# Altium integrated library Texas Instruments Interface RS-422.IntLib: 548 symbols (part 3 of 15)
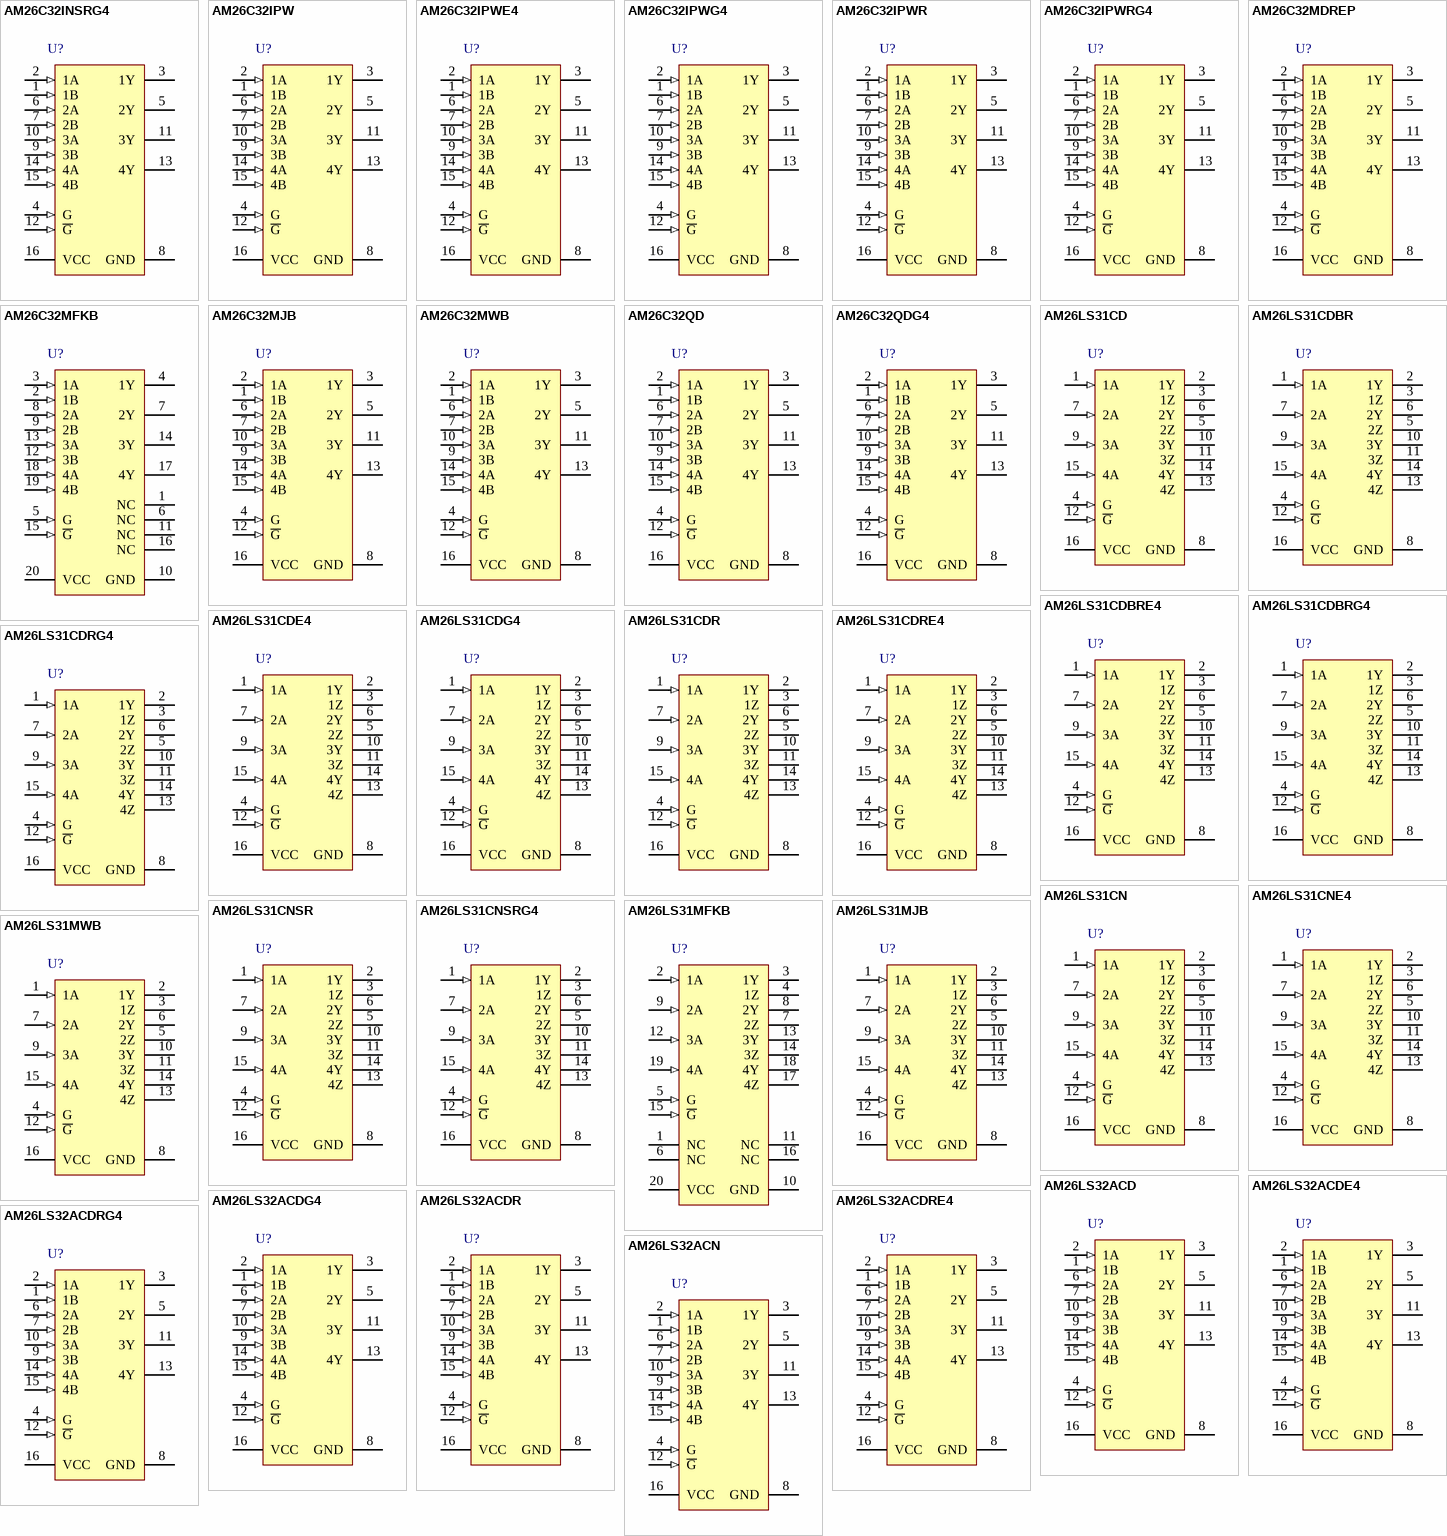
[diagram p17: symbols AM26C32INSRG4 to AM26LS32ACN]

## AM26C32IPWRG4
designator U?
Quadruple Differential Line Receiver, 0 TX / 4 RX, 5V, -40 to 85 degC, 16-Pin TSSOP(PW), Green (RoHS & no Sb/Br); PartNumber: AM26C32IPWRG4; Manufacturer: Texas Instruments; SubFamily: RS-422; Receivers Per Package: 4; ICC(Max)(mA): 15; Supply Voltage(s)(V): 5; ESD(kV): 2; Rating: Catalog; DatasheetVersion: SLLS104I; PackageVersion: revG, Feb-2011; PackageReference: PW16; PackageDescription: 16-Pin Plastic Thin Small Outline Package 5 x 4.4 mm Body ,0.65 mm Pitch; Mounting Technology: Surface Mount; Eco-Plan: Green (RoHS & no Sb/Br); # of TX/RX: 0 TX / 4 RX; Footprint: AM26LS32; Code_JEDEC: MO-153; ComponentLink1Description: Datasheet; ComponentLink1URL: http://www.ti.com/general/docs/lit/getliterature.tsp?genericPartNumber=AM26C32&fileType=pdf; ComponentLink2Description: Package Specification; ComponentLink2URL: http://www.ti.com/lit/ml/mpds361/mpds361.pdf
footprint PW16_N (TSOP, 16-Leads, Body 5x4.4mm, Pitch 0.65mm, IPC Medium Density)
footprint PW16_L (TSOP, 16-Leads, Body 5x4.4mm, Pitch 0.65mm, IPC High Density)
footprint PW16_M (TSOP, 16-Leads, Body 5x4.4mm, Pitch 0.65mm, IPC Low Density)
pins: 1 1B (in), 2 1A (in), 3 1Y (hiz), 4 G (in), 5 2Y (hiz), 6 2A (in), 7 2B (in), 8 GND (power), 9 3B (in), 10 3A (in), 11 3Y (hiz), 12 ~{G} (in), 13 4Y (hiz), 14 4A (in), 15 4B (in), 16 VCC (power)

## AM26C32MDREP
designator U?
Enhanced Product Quadruple Differential Line Receiver, 0 TX / 4 RX, 5V, -55 to 125 degC, 16-Pin SOIC (D), Green (RoHS & no Sb/Br); PartNumber: AM26C32MDREP; Manufacturer: Texas Instruments; SubFamily: RS-422; Receivers Per Package: 4; ICC(Max)(mA): 15; Supply Voltage(s)(V): 5; Rating: HiRel Enhanced Product; DatasheetVersion: SLLS871; PackageVersion: revM, Jun-2011; PackageReference: D16; PackageDescription: 16-Pin Plastic Small Outline Integrated Circuit, 9.9 x 3.9 mm, Pitch 1.27 mm Pitch; Mounting Technology: Surface Mount; Eco-Plan: Green (RoHS & no Sb/Br); # of TX/RX: 0 TX / 4 RX; Code_JEDEC: MS-012AC; ComponentLink1Description: Datasheet; ComponentLink1URL: http://www.ti.com/general/docs/lit/getliterature.tsp?genericPartNumber=AM26C31-EP&fileType=pdf; ComponentLink2Description: Package Specification; ComponentLink2URL: http://www.ti.com/litv/pdf/mpds178g
footprint D16_N (SOIC, 16-Leads, Body 9.9x3.9mm, Pitch 1.27mm, IPC Medium Density)
footprint D16_L (SOIC, 16-Leads, Body 9.9x3.9mm, Pitch 1.27mm, IPC High Density)
footprint D16_M (SOIC, 16-Leads, Body 9.9x3.9mm, Pitch 1.27mm, IPC Low Density)
pins: 1 1B (in), 2 1A (in), 3 1Y (hiz), 4 G (in), 5 2Y (hiz), 6 2A (in), 7 2B (in), 8 GND (power), 9 3B (in), 10 3A (in), 11 3Y (hiz), 12 ~{G} (in), 13 4Y (hiz), 14 4A (in), 15 4B (in), 16 VCC (power)

## AM26C32MFKB
designator U?
Quadruple Differential Line Receiver, 0 TX / 4 RX, 5V, -55 to 125 degC, 20-Pin LCCC (FK); PartNumber: AM26C32MFKB; Manufacturer: Texas Instruments; Eco-Plan: TBD; SubFamily: RS-422; Receivers Per Package: 4; ICC(Max)(mA): 15; Supply Voltage(s)(V): 5; ESD(kV): 2; Rating: Military; DatasheetVersion: SLLS104I; PackageVersion: revD, Jan-2011; PackageReference: FK20; PackageDescription: 20-Pin Leadless Ceramic Chip Carrier, 1.27 mm Pitch; Mounting Technology: Surface Mount; # of TX/RX: 0 TX / 4 RX; Footprint: AM26LS32; Code_JEDEC: MS-004; ComponentLink1Description: Datasheet; ComponentLink1URL: http://www.ti.com/general/docs/lit/getliterature.tsp?genericPartNumber=AM26C32M&fileType=pdf; ComponentLink2Description: Package Specification; ComponentLink2URL: http://www.ti.com/litv/pdf/mlcc006d
footprint FK20_N (Leadless Chip Carrier, 20-Leads, Body 8.9x8.9mm, Pitch 1.27mm, IPC Medium Density)
footprint FK20_L (Leadless Chip Carrier, 20-Leads, Body 8.9x8.9mm, Pitch 1.27mm, IPC High Density)
footprint FK20_M (Leadless Chip Carrier, 20-Leads, Body 8.9x8.9mm, Pitch 1.27mm, IPC Low Density)
pins: 1 NC, 2 1B (in), 3 1A (in), 4 1Y (hiz), 5 G (in), 6 NC, 7 2Y (hiz), 8 2A (in), 9 2B (in), 10 GND (power), 11 NC, 12 3B (in), 13 3A (in), 14 3Y (hiz), 15 ~{G} (in), 16 NC, 17 4Y (hiz), 18 4A (in), 19 4B (in), 20 VCC (power)

## AM26C32MJB
designator U?
Quadruple Differential Line Receiver, 0 TX / 4 RX, 5V, -55 to 125 degC, 16-Pin CDIP (J); PartNumber: AM26C32MJB; Manufacturer: Texas Instruments; Eco-Plan: TBD; SubFamily: RS-422; Receivers Per Package: 4; ICC(Max)(mA): 15; Supply Voltage(s)(V): 5; ESD(kV): 2; Rating: Military; DatasheetVersion: SLLS104I; PackageVersion: revF, Mar-2003; PackageReference: J16; PackageDescription: 16-Pin, Ceramic Dual In-Line Package, Row Spacing 7.62 mm, Pitch 2.54 mm; Mounting Technology: Through-hole; # of TX/RX: 0 TX / 4 RX; Footprint: AM26LS32; ComponentLink1Description: Datasheet; ComponentLink1URL: http://www.ti.com/general/docs/lit/getliterature.tsp?genericPartNumber=AM26C32M&fileType=pdf; ComponentLink2Description: Package Specification; ComponentLink2URL: http://www.ti.com/lit/ml/mcer002d/mcer002d.pdf
footprint J16 (DIP, 16-Leads, Row Spacing 7.62mm, Pitch 2.54mm, Body 21.3x6.9mm)
pins: 1 1B (in), 2 1A (in), 3 1Y (hiz), 4 G (in), 5 2Y (hiz), 6 2A (in), 7 2B (in), 8 GND (power), 9 3B (in), 10 3A (in), 11 3Y (hiz), 12 ~{G} (in), 13 4Y (hiz), 14 4A (in), 15 4B (in), 16 VCC (power)

## AM26C32MWB
designator U?
Quadruple Differential Line Receiver, 0 TX / 4 RX, 5V, -55 to 125 degC, 16-Pin CFP (W); PartNumber: AM26C32MWB; Manufacturer: Texas Instruments; Eco-Plan: TBD; SubFamily: RS-422; Receivers Per Package: 4; ICC(Max)(mA): 15; Supply Voltage(s)(V): 5; ESD(kV): 2; Rating: Military; DatasheetVersion: SLLS104I; PackageVersion: revD, Jul-2003; PackageReference: W16; PackageDescription: 16-Lead Ceramic Dual Flatpack, Body 10.9 x 7.2 mm (LxW max), Pitch 1.27 mm; Mounting Technology: Surface Mount; # of TX/RX: 0 TX / 4 RX; Footprint: AM26LS32; Code_JEDEC: MO-092-AC; ComponentLink1Description: Datasheet; ComponentLink1URL: http://www.ti.com/general/docs/lit/getliterature.tsp?genericPartNumber=AM26C32M&fileType=pdf; ComponentLink2Description: Package Specification; ComponentLink2URL: http://www.ti.com/lit/ml/mcfp004a/mcfp004a.pdf
footprint W16 (DFP, 16 Leads, Body 10.2x6.7mm, Pitch 1.27mm, Gullwing Leadform)
pins: 1 1B (in), 2 1A (in), 3 1Y (hiz), 4 G (in), 5 2Y (hiz), 6 2A (in), 7 2B (in), 8 GND (power), 9 3B (in), 10 3A (in), 11 3Y (hiz), 12 ~{G} (in), 13 4Y (hiz), 14 4A (in), 15 4B (in), 16 VCC (power)

## AM26C32QD
designator U?
Quadruple Differential Line Receiver, 0 TX / 4 RX, 5V, -40 to 125 degC, 16-Pin SOIC (D), Green (RoHS & no Sb/Br); PartNumber: AM26C32QD; Manufacturer: Texas Instruments; SubFamily: RS-422; Receivers Per Package: 4; ICC(Max)(mA): 15; Supply Voltage(s)(V): 5; ESD(kV): 2; Rating: Catalog; DatasheetVersion: SLLS104I; PackageVersion: revM, Jun-2011; PackageReference: D16; PackageDescription: 16-Pin Plastic Small Outline Integrated Circuit, 9.9 x 3.9 mm, Pitch 1.27 mm Pitch; Mounting Technology: Surface Mount; Eco-Plan: Green (RoHS & no Sb/Br); # of TX/RX: 0 TX / 4 RX; Footprint: AM26LS32; Code_JEDEC: MS-012AC; ComponentLink1Description: Datasheet; ComponentLink1URL: http://www.ti.com/general/docs/lit/getliterature.tsp?genericPartNumber=AM26C32&fileType=pdf; ComponentLink2Description: Package Specification; ComponentLink2URL: http://www.ti.com/litv/pdf/mpds178g
footprint D16_N (SOIC, 16-Leads, Body 9.9x3.9mm, Pitch 1.27mm, IPC Medium Density)
footprint D16_L (SOIC, 16-Leads, Body 9.9x3.9mm, Pitch 1.27mm, IPC High Density)
footprint D16_M (SOIC, 16-Leads, Body 9.9x3.9mm, Pitch 1.27mm, IPC Low Density)
pins: 1 1B (in), 2 1A (in), 3 1Y (hiz), 4 G (in), 5 2Y (hiz), 6 2A (in), 7 2B (in), 8 GND (power), 9 3B (in), 10 3A (in), 11 3Y (hiz), 12 ~{G} (in), 13 4Y (hiz), 14 4A (in), 15 4B (in), 16 VCC (power)

## AM26C32QDG4
designator U?
Quadruple Differential Line Receiver, 0 TX / 4 RX, 5V, -40 to 125 degC, 16-Pin SOIC (D), Green (RoHS & no Sb/Br); PartNumber: AM26C32QDG4; Manufacturer: Texas Instruments; SubFamily: RS-422; Receivers Per Package: 4; ICC(Max)(mA): 15; Supply Voltage(s)(V): 5; ESD(kV): 2; Rating: Catalog; DatasheetVersion: SLLS104I; PackageVersion: revM, Jun-2011; PackageReference: D16; PackageDescription: 16-Pin Plastic Small Outline Integrated Circuit, 9.9 x 3.9 mm, Pitch 1.27 mm Pitch; Mounting Technology: Surface Mount; Eco-Plan: Green (RoHS & no Sb/Br); # of TX/RX: 0 TX / 4 RX; Footprint: AM26LS32; Code_JEDEC: MS-012AC; ComponentLink1Description: Datasheet; ComponentLink1URL: http://www.ti.com/general/docs/lit/getliterature.tsp?genericPartNumber=AM26C32&fileType=pdf; ComponentLink2Description: Package Specification; ComponentLink2URL: http://www.ti.com/litv/pdf/mpds178g
footprint D16_N (SOIC, 16-Leads, Body 9.9x3.9mm, Pitch 1.27mm, IPC Medium Density)
footprint D16_L (SOIC, 16-Leads, Body 9.9x3.9mm, Pitch 1.27mm, IPC High Density)
footprint D16_M (SOIC, 16-Leads, Body 9.9x3.9mm, Pitch 1.27mm, IPC Low Density)
pins: 1 1B (in), 2 1A (in), 3 1Y (hiz), 4 G (in), 5 2Y (hiz), 6 2A (in), 7 2B (in), 8 GND (power), 9 3B (in), 10 3A (in), 11 3Y (hiz), 12 ~{G} (in), 13 4Y (hiz), 14 4A (in), 15 4B (in), 16 VCC (power)

## AM26LS31CD
designator U?
Quadruple Differential Line Driver, 4 TX / 0 RX, 5V, 0 to 70 degC, 16-Pin SOIC (D), Green (RoHS & no Sb/Br); PartNumber: AM26LS31CD; Manufacturer: Texas Instruments; SubFamily: RS-422; Drivers Per Package: 4; ICC(Max)(mA): 80; Supply Voltage(s)(V): 5; ESD(kV): 2; Rating: Catalog; DatasheetVersion: SLLS114I; PackageVersion: revM, Jun-2011; PackageReference: D16; PackageDescription: 16-Pin Plastic Small Outline Integrated Circuit, 9.9 x 3.9 mm, Pitch 1.27 mm Pitch; Mounting Technology: Surface Mount; Eco-Plan: Green (RoHS & no Sb/Br); # of TX/RX: 4 TX / 0 RX; Footprint: AM26LS31; Code_JEDEC: MS-012AC; ComponentLink1Description: Datasheet; ComponentLink1URL: http://www.ti.com/general/docs/lit/getliterature.tsp?genericPartNumber=AM26LS31&fileType=pdf; ComponentLink2Description: Package Specification; ComponentLink2URL: http://www.ti.com/litv/pdf/mpds178g
footprint D16_N (SOIC, 16-Leads, Body 9.9x3.9mm, Pitch 1.27mm, IPC Medium Density)
footprint D16_L (SOIC, 16-Leads, Body 9.9x3.9mm, Pitch 1.27mm, IPC High Density)
footprint D16_M (SOIC, 16-Leads, Body 9.9x3.9mm, Pitch 1.27mm, IPC Low Density)
pins: 1 1A (in), 2 1Y (hiz), 3 1Z (hiz), 4 G (in), 5 2Z (hiz), 6 2Y (hiz), 7 2A (in), 8 GND (power), 9 3A (in), 10 3Y (hiz), 11 3Z (hiz), 12 ~{G} (in), 13 4Z (hiz), 14 4Y (hiz), 15 4A (in), 16 VCC (power)

## AM26LS31CDBR
designator U?
Quadruple Differential Line Driver, 4 TX / 0 RX, 5V, 0 to 70 degC, 16-Pin SSOP (DB), Green (RoHS & no Sb/Br); PartNumber: AM26LS31CDBR; Manufacturer: Texas Instruments; SubFamily: RS-422; Drivers Per Package: 4; ICC(Max)(mA): 80; Supply Voltage(s)(V): 5; ESD(kV): 2; Rating: Catalog; DatasheetVersion: SLLS114I; PackageVersion: revE, Dec-2001; PackageReference: DB16; PackageDescription: 16-Pin Plastic Small Outline Package, 6.2 x 5.3 mm Body, 0.65 mm Pitch; Mounting Technology: Surface Mount; Eco-Plan: Green (RoHS & no Sb/Br); # of TX/RX: 4 TX / 0 RX; Footprint: AM26LS31; Code_JEDEC: MO-150; ComponentLink1Description: Datasheet; ComponentLink1URL: http://www.ti.com/general/docs/lit/getliterature.tsp?genericPartNumber=AM26LS31&fileType=pdf; ComponentLink2Description: Package Specification; ComponentLink2URL: http://www.ti.com/lit/ml/msso002e/msso002e.pdf
footprint DB16_N (SOP, 16-Leads, Body 6.2x5.3mm, Pitch 0.65mm, IPC Medium Density)
footprint DB16_L (SOP, 16-Leads, Body 6.2x5.3mm, Pitch 0.65mm, IPC High Density)
footprint DB16_M (SOP, 16-Leads, Body 6.2x5.3mm, Pitch 0.65mm, IPC Low Density)
pins: 1 1A (in), 2 1Y (hiz), 3 1Z (hiz), 4 G (in), 5 2Z (hiz), 6 2Y (hiz), 7 2A (in), 8 GND (power), 9 3A (in), 10 3Y (hiz), 11 3Z (hiz), 12 ~{G} (in), 13 4Z (hiz), 14 4Y (hiz), 15 4A (in), 16 VCC (power)

## AM26LS31CDBRE4
designator U?
Quadruple Differential Line Driver, 4 TX / 0 RX, 5V, 0 to 70 degC, 16-Pin SSOP (DB), Green (RoHS & no Sb/Br); PartNumber: AM26LS31CDBRE4; Manufacturer: Texas Instruments; SubFamily: RS-422; Drivers Per Package: 4; ICC(Max)(mA): 80; Supply Voltage(s)(V): 5; ESD(kV): 2; Rating: Catalog; DatasheetVersion: SLLS114I; PackageVersion: revE, Dec-2001; PackageReference: DB16; PackageDescription: 16-Pin Plastic Small Outline Package, 6.2 x 5.3 mm Body, 0.65 mm Pitch; Mounting Technology: Surface Mount; Eco-Plan: Green (RoHS & no Sb/Br); # of TX/RX: 4 TX / 0 RX; Footprint: AM26LS31; Code_JEDEC: MO-150; ComponentLink1Description: Datasheet; ComponentLink1URL: http://www.ti.com/general/docs/lit/getliterature.tsp?genericPartNumber=AM26LS31&fileType=pdf; ComponentLink2Description: Package Specification; ComponentLink2URL: http://www.ti.com/lit/ml/msso002e/msso002e.pdf
footprint DB16_N (SOP, 16-Leads, Body 6.2x5.3mm, Pitch 0.65mm, IPC Medium Density)
footprint DB16_L (SOP, 16-Leads, Body 6.2x5.3mm, Pitch 0.65mm, IPC High Density)
footprint DB16_M (SOP, 16-Leads, Body 6.2x5.3mm, Pitch 0.65mm, IPC Low Density)
pins: 1 1A (in), 2 1Y (hiz), 3 1Z (hiz), 4 G (in), 5 2Z (hiz), 6 2Y (hiz), 7 2A (in), 8 GND (power), 9 3A (in), 10 3Y (hiz), 11 3Z (hiz), 12 ~{G} (in), 13 4Z (hiz), 14 4Y (hiz), 15 4A (in), 16 VCC (power)

## AM26LS31CDBRG4
designator U?
Quadruple Differential Line Driver, 4 TX / 0 RX, 5V, 0 to 70 degC, 16-Pin SSOP (DB), Green (RoHS & no Sb/Br); PartNumber: AM26LS31CDBRG4; Manufacturer: Texas Instruments; SubFamily: RS-422; Drivers Per Package: 4; ICC(Max)(mA): 80; Supply Voltage(s)(V): 5; ESD(kV): 2; Rating: Catalog; DatasheetVersion: SLLS114I; PackageVersion: revE, Dec-2001; PackageReference: DB16; PackageDescription: 16-Pin Plastic Small Outline Package, 6.2 x 5.3 mm Body, 0.65 mm Pitch; Mounting Technology: Surface Mount; Eco-Plan: Green (RoHS & no Sb/Br); # of TX/RX: 4 TX / 0 RX; Footprint: AM26LS31; Code_JEDEC: MO-150; ComponentLink1Description: Datasheet; ComponentLink1URL: http://www.ti.com/general/docs/lit/getliterature.tsp?genericPartNumber=AM26LS31&fileType=pdf; ComponentLink2Description: Package Specification; ComponentLink2URL: http://www.ti.com/lit/ml/msso002e/msso002e.pdf
footprint DB16_N (SOP, 16-Leads, Body 6.2x5.3mm, Pitch 0.65mm, IPC Medium Density)
footprint DB16_L (SOP, 16-Leads, Body 6.2x5.3mm, Pitch 0.65mm, IPC High Density)
footprint DB16_M (SOP, 16-Leads, Body 6.2x5.3mm, Pitch 0.65mm, IPC Low Density)
pins: 1 1A (in), 2 1Y (hiz), 3 1Z (hiz), 4 G (in), 5 2Z (hiz), 6 2Y (hiz), 7 2A (in), 8 GND (power), 9 3A (in), 10 3Y (hiz), 11 3Z (hiz), 12 ~{G} (in), 13 4Z (hiz), 14 4Y (hiz), 15 4A (in), 16 VCC (power)

## AM26LS31CDE4
designator U?
Quadruple Differential Line Driver, 4 TX / 0 RX, 5V, 0 to 70 degC, 16-Pin SOIC (D), Green (RoHS & no Sb/Br); PartNumber: AM26LS31CDE4; Manufacturer: Texas Instruments; SubFamily: RS-422; Drivers Per Package: 4; ICC(Max)(mA): 80; Supply Voltage(s)(V): 5; ESD(kV): 2; Rating: Catalog; DatasheetVersion: SLLS114I; PackageVersion: revM, Jun-2011; PackageReference: D16; PackageDescription: 16-Pin Plastic Small Outline Integrated Circuit, 9.9 x 3.9 mm, Pitch 1.27 mm Pitch; Mounting Technology: Surface Mount; Eco-Plan: Green (RoHS & no Sb/Br); # of TX/RX: 4 TX / 0 RX; Footprint: AM26LS31; Code_JEDEC: MS-012AC; ComponentLink1Description: Datasheet; ComponentLink1URL: http://www.ti.com/general/docs/lit/getliterature.tsp?genericPartNumber=AM26LS31&fileType=pdf; ComponentLink2Description: Package Specification; ComponentLink2URL: http://www.ti.com/litv/pdf/mpds178g
footprint D16_N (SOIC, 16-Leads, Body 9.9x3.9mm, Pitch 1.27mm, IPC Medium Density)
footprint D16_L (SOIC, 16-Leads, Body 9.9x3.9mm, Pitch 1.27mm, IPC High Density)
footprint D16_M (SOIC, 16-Leads, Body 9.9x3.9mm, Pitch 1.27mm, IPC Low Density)
pins: 1 1A (in), 2 1Y (hiz), 3 1Z (hiz), 4 G (in), 5 2Z (hiz), 6 2Y (hiz), 7 2A (in), 8 GND (power), 9 3A (in), 10 3Y (hiz), 11 3Z (hiz), 12 ~{G} (in), 13 4Z (hiz), 14 4Y (hiz), 15 4A (in), 16 VCC (power)

## AM26LS31CDG4
designator U?
Quadruple Differential Line Driver, 4 TX / 0 RX, 5V, 0 to 70 degC, 16-Pin SOIC (D), Green (RoHS & no Sb/Br); PartNumber: AM26LS31CDG4; Manufacturer: Texas Instruments; SubFamily: RS-422; Drivers Per Package: 4; ICC(Max)(mA): 80; Supply Voltage(s)(V): 5; ESD(kV): 2; Rating: Catalog; DatasheetVersion: SLLS114I; PackageVersion: revM, Jun-2011; PackageReference: D16; PackageDescription: 16-Pin Plastic Small Outline Integrated Circuit, 9.9 x 3.9 mm, Pitch 1.27 mm Pitch; Mounting Technology: Surface Mount; Eco-Plan: Green (RoHS & no Sb/Br); # of TX/RX: 4 TX / 0 RX; Footprint: AM26LS31; Code_JEDEC: MS-012AC; ComponentLink1Description: Datasheet; ComponentLink1URL: http://www.ti.com/general/docs/lit/getliterature.tsp?genericPartNumber=AM26LS31&fileType=pdf; ComponentLink2Description: Package Specification; ComponentLink2URL: http://www.ti.com/litv/pdf/mpds178g
footprint D16_N (SOIC, 16-Leads, Body 9.9x3.9mm, Pitch 1.27mm, IPC Medium Density)
footprint D16_L (SOIC, 16-Leads, Body 9.9x3.9mm, Pitch 1.27mm, IPC High Density)
footprint D16_M (SOIC, 16-Leads, Body 9.9x3.9mm, Pitch 1.27mm, IPC Low Density)
pins: 1 1A (in), 2 1Y (hiz), 3 1Z (hiz), 4 G (in), 5 2Z (hiz), 6 2Y (hiz), 7 2A (in), 8 GND (power), 9 3A (in), 10 3Y (hiz), 11 3Z (hiz), 12 ~{G} (in), 13 4Z (hiz), 14 4Y (hiz), 15 4A (in), 16 VCC (power)

## AM26LS31CDR
designator U?
Quadruple Differential Line Driver, 4 TX / 0 RX, 5V, 0 to 70 degC, 16-Pin SOIC (D), Green (RoHS & no Sb/Br); PartNumber: AM26LS31CDR; Manufacturer: Texas Instruments; SubFamily: RS-422; Drivers Per Package: 4; ICC(Max)(mA): 80; Supply Voltage(s)(V): 5; ESD(kV): 2; Rating: Catalog; DatasheetVersion: SLLS114I; PackageVersion: revM, Jun-2011; PackageReference: D16; PackageDescription: 16-Pin Plastic Small Outline Integrated Circuit, 9.9 x 3.9 mm, Pitch 1.27 mm Pitch; Mounting Technology: Surface Mount; Eco-Plan: Green (RoHS & no Sb/Br); # of TX/RX: 4 TX / 0 RX; Footprint: AM26LS31; Code_JEDEC: MS-012AC; ComponentLink1Description: Datasheet; ComponentLink1URL: http://www.ti.com/general/docs/lit/getliterature.tsp?genericPartNumber=AM26LS31&fileType=pdf; ComponentLink2Description: Package Specification; ComponentLink2URL: http://www.ti.com/litv/pdf/mpds178g
footprint D16_N (SOIC, 16-Leads, Body 9.9x3.9mm, Pitch 1.27mm, IPC Medium Density)
footprint D16_L (SOIC, 16-Leads, Body 9.9x3.9mm, Pitch 1.27mm, IPC High Density)
footprint D16_M (SOIC, 16-Leads, Body 9.9x3.9mm, Pitch 1.27mm, IPC Low Density)
pins: 1 1A (in), 2 1Y (hiz), 3 1Z (hiz), 4 G (in), 5 2Z (hiz), 6 2Y (hiz), 7 2A (in), 8 GND (power), 9 3A (in), 10 3Y (hiz), 11 3Z (hiz), 12 ~{G} (in), 13 4Z (hiz), 14 4Y (hiz), 15 4A (in), 16 VCC (power)

## AM26LS31CDRE4
designator U?
Quadruple Differential Line Driver, 4 TX / 0 RX, 5V, 0 to 70 degC, 16-Pin SOIC (D), Green (RoHS & no Sb/Br); PartNumber: AM26LS31CDRE4; Manufacturer: Texas Instruments; SubFamily: RS-422; Drivers Per Package: 4; ICC(Max)(mA): 80; Supply Voltage(s)(V): 5; ESD(kV): 2; Rating: Catalog; DatasheetVersion: SLLS114I; PackageVersion: revM, Jun-2011; PackageReference: D16; PackageDescription: 16-Pin Plastic Small Outline Integrated Circuit, 9.9 x 3.9 mm, Pitch 1.27 mm Pitch; Mounting Technology: Surface Mount; Eco-Plan: Green (RoHS & no Sb/Br); # of TX/RX: 4 TX / 0 RX; Footprint: AM26LS31; Code_JEDEC: MS-012AC; ComponentLink1Description: Datasheet; ComponentLink1URL: http://www.ti.com/general/docs/lit/getliterature.tsp?genericPartNumber=AM26LS31&fileType=pdf; ComponentLink2Description: Package Specification; ComponentLink2URL: http://www.ti.com/litv/pdf/mpds178g
footprint D16_N (SOIC, 16-Leads, Body 9.9x3.9mm, Pitch 1.27mm, IPC Medium Density)
footprint D16_L (SOIC, 16-Leads, Body 9.9x3.9mm, Pitch 1.27mm, IPC High Density)
footprint D16_M (SOIC, 16-Leads, Body 9.9x3.9mm, Pitch 1.27mm, IPC Low Density)
pins: 1 1A (in), 2 1Y (hiz), 3 1Z (hiz), 4 G (in), 5 2Z (hiz), 6 2Y (hiz), 7 2A (in), 8 GND (power), 9 3A (in), 10 3Y (hiz), 11 3Z (hiz), 12 ~{G} (in), 13 4Z (hiz), 14 4Y (hiz), 15 4A (in), 16 VCC (power)

## AM26LS31CDRG4
designator U?
Quadruple Differential Line Driver, 4 TX / 0 RX, 5V, 0 to 70 degC, 16-Pin SOIC (D), Green (RoHS & no Sb/Br); PartNumber: AM26LS31CDRG4; Manufacturer: Texas Instruments; SubFamily: RS-422; Drivers Per Package: 4; ICC(Max)(mA): 80; Supply Voltage(s)(V): 5; ESD(kV): 2; Rating: Catalog; DatasheetVersion: SLLS114I; PackageVersion: revM, Jun-2011; PackageReference: D16; PackageDescription: 16-Pin Plastic Small Outline Integrated Circuit, 9.9 x 3.9 mm, Pitch 1.27 mm Pitch; Mounting Technology: Surface Mount; Eco-Plan: Green (RoHS & no Sb/Br); # of TX/RX: 4 TX / 0 RX; Footprint: AM26LS31; Code_JEDEC: MS-012AC; ComponentLink1Description: Datasheet; ComponentLink1URL: http://www.ti.com/general/docs/lit/getliterature.tsp?genericPartNumber=AM26LS31&fileType=pdf; ComponentLink2Description: Package Specification; ComponentLink2URL: http://www.ti.com/litv/pdf/mpds178g
footprint D16_N (SOIC, 16-Leads, Body 9.9x3.9mm, Pitch 1.27mm, IPC Medium Density)
footprint D16_L (SOIC, 16-Leads, Body 9.9x3.9mm, Pitch 1.27mm, IPC High Density)
footprint D16_M (SOIC, 16-Leads, Body 9.9x3.9mm, Pitch 1.27mm, IPC Low Density)
pins: 1 1A (in), 2 1Y (hiz), 3 1Z (hiz), 4 G (in), 5 2Z (hiz), 6 2Y (hiz), 7 2A (in), 8 GND (power), 9 3A (in), 10 3Y (hiz), 11 3Z (hiz), 12 ~{G} (in), 13 4Z (hiz), 14 4Y (hiz), 15 4A (in), 16 VCC (power)

## AM26LS31CN
designator U?
Quadruple Differential Line Driver, 4 TX / 0 RX, 5V, 0 to 70 degC, 16-Pin PDIP (N), Green (RoHS & no Sb/Br); PartNumber: AM26LS31CN; Manufacturer: Texas Instruments; SubFamily: RS-422; Drivers Per Package: 4; ICC(Max)(mA): 80; Supply Voltage(s)(V): 5; ESD(kV): 2; Rating: Catalog; DatasheetVersion: SLLS114I; PackageVersion: revE, Dec-2002; PackageReference: N16; PackageDescription: 16-Pin Plastic Dual-In-Line Package, Row Spacing 7.62 mm, Pitch 2.54 mm; Mounting Technology: Through-hole; Eco-Plan: Green (RoHS & no Sb/Br); # of TX/RX: 4 TX / 0 RX; Footprint: AM26LS31; Code_JEDEC: MS-001*; ComponentLink1Description: Datasheet; ComponentLink1URL: http://www.ti.com/general/docs/lit/getliterature.tsp?genericPartNumber=AM26LS31&fileType=pdf; ComponentLink2Description: Package Specification; ComponentLink2URL: http://www.ti.com/lit/ml/mpdi002c/mpdi002c.pdf
footprint N16 (DIP, 16-Leads, Row Spacing 7.62mm, Pitch 2.54mm, Body 19.3x6.4mm)
pins: 1 1A (in), 2 1Y (hiz), 3 1Z (hiz), 4 G (in), 5 2Z (hiz), 6 2Y (hiz), 7 2A (in), 8 GND (power), 9 3A (in), 10 3Y (hiz), 11 3Z (hiz), 12 ~{G} (in), 13 4Z (hiz), 14 4Y (hiz), 15 4A (in), 16 VCC (power)

## AM26LS31CNE4
designator U?
Quadruple Differential Line Driver, 4 TX / 0 RX, 5V, 0 to 70 degC, 16-Pin PDIP (N), Green (RoHS & no Sb/Br); PartNumber: AM26LS31CNE4; Manufacturer: Texas Instruments; SubFamily: RS-422; Drivers Per Package: 4; ICC(Max)(mA): 80; Supply Voltage(s)(V): 5; ESD(kV): 2; Rating: Catalog; DatasheetVersion: SLLS114I; PackageVersion: revE, Dec-2002; PackageReference: N16; PackageDescription: 16-Pin Plastic Dual-In-Line Package, Row Spacing 7.62 mm, Pitch 2.54 mm; Mounting Technology: Through-hole; Eco-Plan: Green (RoHS & no Sb/Br); # of TX/RX: 4 TX / 0 RX; Footprint: AM26LS31; Code_JEDEC: MS-001*; ComponentLink1Description: Datasheet; ComponentLink1URL: http://www.ti.com/general/docs/lit/getliterature.tsp?genericPartNumber=AM26LS31&fileType=pdf; ComponentLink2Description: Package Specification; ComponentLink2URL: http://www.ti.com/lit/ml/mpdi002c/mpdi002c.pdf
footprint N16 (DIP, 16-Leads, Row Spacing 7.62mm, Pitch 2.54mm, Body 19.3x6.4mm)
pins: 1 1A (in), 2 1Y (hiz), 3 1Z (hiz), 4 G (in), 5 2Z (hiz), 6 2Y (hiz), 7 2A (in), 8 GND (power), 9 3A (in), 10 3Y (hiz), 11 3Z (hiz), 12 ~{G} (in), 13 4Z (hiz), 14 4Y (hiz), 15 4A (in), 16 VCC (power)

## AM26LS31CNSR
designator U?
Quadruple Differential Line Driver, 4 TX / 0 RX, 5V, 0 to 70 degC, 16-Pin SO (NS), Green (RoHS & no Sb/Br); PartNumber: AM26LS31CNSR; Manufacturer: Texas Instruments; SubFamily: RS-422; Drivers Per Package: 4; ICC(Max)(mA): 80; Supply Voltage(s)(V): 5; ESD(kV): 2; Rating: Catalog; DatasheetVersion: SLLS114I; PackageVersion: revC, Mar-2003; PackageReference: NS16; PackageDescription: 16-Pin Plastic Small Outline Package, 10.2 x 5.3 mm, Pitch 1.27 mm Pitch; Mounting Technology: Surface Mount; Eco-Plan: Green (RoHS & no Sb/Br); # of TX/RX: 4 TX / 0 RX; Footprint: AM26LS31; ComponentLink1Description: Datasheet; ComponentLink1URL: http://www.ti.com/general/docs/lit/getliterature.tsp?genericPartNumber=AM26LS31&fileType=pdf; ComponentLink2Description: Package Specification; ComponentLink2URL: http://www.ti.com/litv/pdf/msop002a
footprint NS16_N (SOP, 16-Leads, Body 10.2x5.3mm, Pitch 1.27mm, IPC Medium Density)
footprint NS16_L (SOP, 16-Leads, Body 10.2x5.3mm, Pitch 1.27mm, IPC High Density)
footprint NS16_M (SOP, 16-Leads, Body 10.2x5.3mm, Pitch 1.27mm, IPC Low Density)
pins: 1 1A (in), 2 1Y (hiz), 3 1Z (hiz), 4 G (in), 5 2Z (hiz), 6 2Y (hiz), 7 2A (in), 8 GND (power), 9 3A (in), 10 3Y (hiz), 11 3Z (hiz), 12 ~{G} (in), 13 4Z (hiz), 14 4Y (hiz), 15 4A (in), 16 VCC (power)

## AM26LS31CNSRG4
designator U?
Quadruple Differential Line Driver, 4 TX / 0 RX, 5V, 0 to 70 degC, 16-Pin SO (NS), Green (RoHS & no Sb/Br); PartNumber: AM26LS31CNSRG4; Manufacturer: Texas Instruments; SubFamily: RS-422; Drivers Per Package: 4; ICC(Max)(mA): 80; Supply Voltage(s)(V): 5; ESD(kV): 2; Rating: Catalog; DatasheetVersion: SLLS114I; PackageVersion: revC, Mar-2003; PackageReference: NS16; PackageDescription: 16-Pin Plastic Small Outline Package, 10.2 x 5.3 mm, Pitch 1.27 mm Pitch; Mounting Technology: Surface Mount; Eco-Plan: Green (RoHS & no Sb/Br); # of TX/RX: 4 TX / 0 RX; Footprint: AM26LS31; ComponentLink1Description: Datasheet; ComponentLink1URL: http://www.ti.com/general/docs/lit/getliterature.tsp?genericPartNumber=AM26LS31&fileType=pdf; ComponentLink2Description: Package Specification; ComponentLink2URL: http://www.ti.com/litv/pdf/msop002a
footprint NS16_N (SOP, 16-Leads, Body 10.2x5.3mm, Pitch 1.27mm, IPC Medium Density)
footprint NS16_L (SOP, 16-Leads, Body 10.2x5.3mm, Pitch 1.27mm, IPC High Density)
footprint NS16_M (SOP, 16-Leads, Body 10.2x5.3mm, Pitch 1.27mm, IPC Low Density)
pins: 1 1A (in), 2 1Y (hiz), 3 1Z (hiz), 4 G (in), 5 2Z (hiz), 6 2Y (hiz), 7 2A (in), 8 GND (power), 9 3A (in), 10 3Y (hiz), 11 3Z (hiz), 12 ~{G} (in), 13 4Z (hiz), 14 4Y (hiz), 15 4A (in), 16 VCC (power)

## AM26LS31MFKB
designator U?
Quadruple Differential Line Driver, 4 TX / 0 RX, 5V, -55 to 125 degC, 20-Pin LCCC (FK); PartNumber: AM26LS31MFKB; Manufacturer: Texas Instruments; Eco-Plan: TBD; SubFamily: RS-422; Drivers Per Package: 4; ICC(Max)(mA): 80; Supply Voltage(s)(V): 5; ESD(kV): 2; Rating: Military; DatasheetVersion: SLLS114I; PackageVersion: revD, Jan-2011; PackageReference: FK20; PackageDescription: 20-Pin Leadless Ceramic Chip Carrier, 1.27 mm Pitch; Mounting Technology: Surface Mount; # of TX/RX: 4 TX / 0 RX; Footprint: AM26LS31; Code_JEDEC: MS-004; ComponentLink1Description: Datasheet; ComponentLink1URL: http://www.ti.com/general/docs/lit/getliterature.tsp?genericPartNumber=AM26LS31M&fileType=pdf; ComponentLink2Description: Package Specification; ComponentLink2URL: http://www.ti.com/litv/pdf/mlcc006d
footprint FK20_N (Leadless Chip Carrier, 20-Leads, Body 8.9x8.9mm, Pitch 1.27mm, IPC Medium Density)
footprint FK20_L (Leadless Chip Carrier, 20-Leads, Body 8.9x8.9mm, Pitch 1.27mm, IPC High Density)
footprint FK20_M (Leadless Chip Carrier, 20-Leads, Body 8.9x8.9mm, Pitch 1.27mm, IPC Low Density)
pins: 1 NC, 2 1A (in), 3 1Y (hiz), 4 1Z (hiz), 5 G (in), 6 NC, 7 2Z (hiz), 8 2Y (hiz), 9 2A (in), 10 GND (power), 11 NC, 12 3A (in), 13 3Y (hiz), 14 3Z (hiz), 15 ~{G} (in), 16 NC, 17 4Z (hiz), 18 4Y (hiz), 19 4A (in), 20 VCC (power)

## AM26LS31MJB
designator U?
Quadruple Differential Line Driver, 4 TX / 0 RX, 5V, -55 to 125 degC, 16-Pin CDIP (J); PartNumber: AM26LS31MJB; Manufacturer: Texas Instruments; Eco-Plan: TBD; SubFamily: RS-422; Drivers Per Package: 4; ICC(Max)(mA): 80; Supply Voltage(s)(V): 5; ESD(kV): 2; Rating: Military; DatasheetVersion: SLLS114I; PackageVersion: revF, Mar-2003; PackageReference: J16; PackageDescription: 16-Pin, Ceramic Dual In-Line Package, Row Spacing 7.62 mm, Pitch 2.54 mm; Mounting Technology: Through-hole; # of TX/RX: 4 TX / 0 RX; Footprint: AM26LS31; ComponentLink1Description: Datasheet; ComponentLink1URL: http://www.ti.com/general/docs/lit/getliterature.tsp?genericPartNumber=AM26LS31M&fileType=pdf; ComponentLink2Description: Package Specification; ComponentLink2URL: http://www.ti.com/lit/ml/mcer002d/mcer002d.pdf
footprint J16 (DIP, 16-Leads, Row Spacing 7.62mm, Pitch 2.54mm, Body 21.3x6.9mm)
pins: 1 1A (in), 2 1Y (hiz), 3 1Z (hiz), 4 G (in), 5 2Z (hiz), 6 2Y (hiz), 7 2A (in), 8 GND (power), 9 3A (in), 10 3Y (hiz), 11 3Z (hiz), 12 ~{G} (in), 13 4Z (hiz), 14 4Y (hiz), 15 4A (in), 16 VCC (power)

## AM26LS31MWB
designator U?
Quadruple Differential Line Driver, 4 TX / 0 RX, 5V, -55 to 125 degC, 16-Pin CFP (W); PartNumber: AM26LS31MWB; Manufacturer: Texas Instruments; Eco-Plan: TBD; SubFamily: RS-422; Drivers Per Package: 4; ICC(Max)(mA): 80; Supply Voltage(s)(V): 5; ESD(kV): 2; Rating: Military; DatasheetVersion: SLLS114I; PackageVersion: revD, Jul-2003; PackageReference: W16; PackageDescription: 16-Lead Ceramic Dual Flatpack, Body 10.9 x 7.2 mm (LxW max), Pitch 1.27 mm; Mounting Technology: Surface Mount; # of TX/RX: 4 TX / 0 RX; Footprint: AM26LS31; Code_JEDEC: MO-092-AC; ComponentLink1Description: Datasheet; ComponentLink1URL: http://www.ti.com/general/docs/lit/getliterature.tsp?genericPartNumber=AM26LS31M&fileType=pdf; ComponentLink2Description: Package Specification; ComponentLink2URL: http://www.ti.com/lit/ml/mcfp004a/mcfp004a.pdf
footprint W16 (DFP, 16 Leads, Body 10.2x6.7mm, Pitch 1.27mm, Gullwing Leadform)
pins: 1 1A (in), 2 1Y (hiz), 3 1Z (hiz), 4 G (in), 5 2Z (hiz), 6 2Y (hiz), 7 2A (in), 8 GND (power), 9 3A (in), 10 3Y (hiz), 11 3Z (hiz), 12 ~{G} (in), 13 4Z (hiz), 14 4Y (hiz), 15 4A (in), 16 VCC (power)

## AM26LS32ACD
designator U?
Quadruple Differential Line Receiver, 0 TX / 4 RX, 0 to 70 degC, 16-Pin SOIC (D) , Green (RoHS & no Sb/Br); PartNumber: AM26LS32ACD; Manufacturer: Texas Instruments; SubFamily: RS-422; Receivers Per Package: 4; ICC(Max)(mA): 70; Rating: Catalog; DatasheetVersion: SLLS115E; PackageVersion: revM, Jun-2011; PackageReference: D16; PackageDescription: 16-Pin Plastic Small Outline Integrated Circuit, 9.9 x 3.9 mm, Pitch 1.27 mm Pitch; Mounting Technology: Surface Mount; Eco-Plan: Green (RoHS & no Sb/Br); # of TX/RX: 0 TX / 4 RX; Code_JEDEC: MS-012AC; ComponentLink1Description: Datasheet; ComponentLink1URL: http://www.ti.com/general/docs/lit/getliterature.tsp?genericPartNumber=AM26LS32AC&fileType=pdf; ComponentLink2Description: Package Specification; ComponentLink2URL: http://www.ti.com/litv/pdf/mpds178g
footprint D16_N (SOIC, 16-Leads, Body 9.9x3.9mm, Pitch 1.27mm, IPC Medium Density)
footprint D16_L (SOIC, 16-Leads, Body 9.9x3.9mm, Pitch 1.27mm, IPC High Density)
footprint D16_M (SOIC, 16-Leads, Body 9.9x3.9mm, Pitch 1.27mm, IPC Low Density)
pins: 1 1B (in), 2 1A (in), 3 1Y (hiz), 4 G (in), 5 2Y (hiz), 6 2A (in), 7 2B (in), 8 GND (power), 9 3B (in), 10 3A (in), 11 3Y (hiz), 12 ~{G} (in), 13 4Y (hiz), 14 4A (in), 15 4B (in), 16 VCC (power)

## AM26LS32ACDE4
designator U?
Quadruple Differential Line Receiver, 0 TX / 4 RX, 0 to 70 degC, 16-Pin SOIC (D), Green (RoHS & no Sb/Br); PartNumber: AM26LS32ACDE4; Manufacturer: Texas Instruments; SubFamily: RS-422; Receivers Per Package: 4; ICC(Max)(mA): 70; Rating: Catalog; DatasheetVersion: SLLS115E; PackageVersion: revM, Jun-2011; PackageReference: D16; PackageDescription: 16-Pin Plastic Small Outline Integrated Circuit, 9.9 x 3.9 mm, Pitch 1.27 mm Pitch; Mounting Technology: Surface Mount; Eco-Plan: Green (RoHS & no Sb/Br); # of TX/RX: 0 TX / 4 RX; Code_JEDEC: MS-012AC; ComponentLink1Description: Datasheet; ComponentLink1URL: http://www.ti.com/general/docs/lit/getliterature.tsp?genericPartNumber=AM26LS32AC&fileType=pdf; ComponentLink2Description: Package Specification; ComponentLink2URL: http://www.ti.com/litv/pdf/mpds178g
footprint D16_N (SOIC, 16-Leads, Body 9.9x3.9mm, Pitch 1.27mm, IPC Medium Density)
footprint D16_L (SOIC, 16-Leads, Body 9.9x3.9mm, Pitch 1.27mm, IPC High Density)
footprint D16_M (SOIC, 16-Leads, Body 9.9x3.9mm, Pitch 1.27mm, IPC Low Density)
pins: 1 1B (in), 2 1A (in), 3 1Y (hiz), 4 G (in), 5 2Y (hiz), 6 2A (in), 7 2B (in), 8 GND (power), 9 3B (in), 10 3A (in), 11 3Y (hiz), 12 ~{G} (in), 13 4Y (hiz), 14 4A (in), 15 4B (in), 16 VCC (power)

## AM26LS32ACDG4
designator U?
Quadruple Differential Line Receiver, 0 TX / 4 RX, 0 to 70 degC, 16-Pin SOIC (D), Green (RoHS & no Sb/Br); PartNumber: AM26LS32ACDG4; Manufacturer: Texas Instruments; SubFamily: RS-422; Receivers Per Package: 4; ICC(Max)(mA): 70; Rating: Catalog; DatasheetVersion: SLLS115E; PackageVersion: revM, Jun-2011; PackageReference: D16; PackageDescription: 16-Pin Plastic Small Outline Integrated Circuit, 9.9 x 3.9 mm, Pitch 1.27 mm Pitch; Mounting Technology: Surface Mount; Eco-Plan: Green (RoHS & no Sb/Br); # of TX/RX: 0 TX / 4 RX; Code_JEDEC: MS-012AC; ComponentLink1Description: Datasheet; ComponentLink1URL: http://www.ti.com/general/docs/lit/getliterature.tsp?genericPartNumber=AM26LS32AC&fileType=pdf; ComponentLink2Description: Package Specification; ComponentLink2URL: http://www.ti.com/litv/pdf/mpds178g
footprint D16_N (SOIC, 16-Leads, Body 9.9x3.9mm, Pitch 1.27mm, IPC Medium Density)
footprint D16_L (SOIC, 16-Leads, Body 9.9x3.9mm, Pitch 1.27mm, IPC High Density)
footprint D16_M (SOIC, 16-Leads, Body 9.9x3.9mm, Pitch 1.27mm, IPC Low Density)
pins: 1 1B (in), 2 1A (in), 3 1Y (hiz), 4 G (in), 5 2Y (hiz), 6 2A (in), 7 2B (in), 8 GND (power), 9 3B (in), 10 3A (in), 11 3Y (hiz), 12 ~{G} (in), 13 4Y (hiz), 14 4A (in), 15 4B (in), 16 VCC (power)

## AM26LS32ACDR
designator U?
Quadruple Differential Line Receiver, 0 TX / 4 RX, 0 to 70 degC, 16-Pin SOIC (D), Green (RoHS & no Sb/Br); PartNumber: AM26LS32ACDR; Manufacturer: Texas Instruments; SubFamily: RS-422; Receivers Per Package: 4; ICC(Max)(mA): 70; Rating: Catalog; DatasheetVersion: SLLS115E; PackageVersion: revM, Jun-2011; PackageReference: D16; PackageDescription: 16-Pin Plastic Small Outline Integrated Circuit, 9.9 x 3.9 mm, Pitch 1.27 mm Pitch; Mounting Technology: Surface Mount; Eco-Plan: Green (RoHS & no Sb/Br); # of TX/RX: 0 TX / 4 RX; Code_JEDEC: MS-012AC; ComponentLink1Description: Datasheet; ComponentLink1URL: http://www.ti.com/general/docs/lit/getliterature.tsp?genericPartNumber=AM26LS32AC&fileType=pdf; ComponentLink2Description: Package Specification; ComponentLink2URL: http://www.ti.com/litv/pdf/mpds178g
footprint D16_N (SOIC, 16-Leads, Body 9.9x3.9mm, Pitch 1.27mm, IPC Medium Density)
footprint D16_L (SOIC, 16-Leads, Body 9.9x3.9mm, Pitch 1.27mm, IPC High Density)
footprint D16_M (SOIC, 16-Leads, Body 9.9x3.9mm, Pitch 1.27mm, IPC Low Density)
pins: 1 1B (in), 2 1A (in), 3 1Y (hiz), 4 G (in), 5 2Y (hiz), 6 2A (in), 7 2B (in), 8 GND (power), 9 3B (in), 10 3A (in), 11 3Y (hiz), 12 ~{G} (in), 13 4Y (hiz), 14 4A (in), 15 4B (in), 16 VCC (power)

## AM26LS32ACDRE4
designator U?
Quadruple Differential Line Receiver, 0 TX / 4 RX, 0 to 70 degC, 16-Pin SOIC (D), Green (RoHS & no Sb/Br); PartNumber: AM26LS32ACDRE4; Manufacturer: Texas Instruments; SubFamily: RS-422; Receivers Per Package: 4; ICC(Max)(mA): 70; Rating: Catalog; DatasheetVersion: SLLS115E; PackageVersion: revM, Jun-2011; PackageReference: D16; PackageDescription: 16-Pin Plastic Small Outline Integrated Circuit, 9.9 x 3.9 mm, Pitch 1.27 mm Pitch; Mounting Technology: Surface Mount; Eco-Plan: Green (RoHS & no Sb/Br); # of TX/RX: 0 TX / 4 RX; Code_JEDEC: MS-012AC; ComponentLink1Description: Datasheet; ComponentLink1URL: http://www.ti.com/general/docs/lit/getliterature.tsp?genericPartNumber=AM26LS32AC&fileType=pdf; ComponentLink2Description: Package Specification; ComponentLink2URL: http://www.ti.com/litv/pdf/mpds178g
footprint D16_N (SOIC, 16-Leads, Body 9.9x3.9mm, Pitch 1.27mm, IPC Medium Density)
footprint D16_L (SOIC, 16-Leads, Body 9.9x3.9mm, Pitch 1.27mm, IPC High Density)
footprint D16_M (SOIC, 16-Leads, Body 9.9x3.9mm, Pitch 1.27mm, IPC Low Density)
pins: 1 1B (in), 2 1A (in), 3 1Y (hiz), 4 G (in), 5 2Y (hiz), 6 2A (in), 7 2B (in), 8 GND (power), 9 3B (in), 10 3A (in), 11 3Y (hiz), 12 ~{G} (in), 13 4Y (hiz), 14 4A (in), 15 4B (in), 16 VCC (power)

## AM26LS32ACDRG4
designator U?
Quadruple Differential Line Receiver, 0 TX / 4 RX, 0 to 70 degC, 16-Pin SOIC (D), Green (RoHS & no Sb/Br); PartNumber: AM26LS32ACDRG4; Manufacturer: Texas Instruments; SubFamily: RS-422; Receivers Per Package: 4; ICC(Max)(mA): 70; Rating: Catalog; DatasheetVersion: SLLS115E; PackageVersion: revM, Jun-2011; PackageReference: D16; PackageDescription: 16-Pin Plastic Small Outline Integrated Circuit, 9.9 x 3.9 mm, Pitch 1.27 mm Pitch; Mounting Technology: Surface Mount; Eco-Plan: Green (RoHS & no Sb/Br); # of TX/RX: 0 TX / 4 RX; Code_JEDEC: MS-012AC; ComponentLink1Description: Datasheet; ComponentLink1URL: http://www.ti.com/general/docs/lit/getliterature.tsp?genericPartNumber=AM26LS32AC&fileType=pdf; ComponentLink2Description: Package Specification; ComponentLink2URL: http://www.ti.com/litv/pdf/mpds178g
footprint D16_N (SOIC, 16-Leads, Body 9.9x3.9mm, Pitch 1.27mm, IPC Medium Density)
footprint D16_L (SOIC, 16-Leads, Body 9.9x3.9mm, Pitch 1.27mm, IPC High Density)
footprint D16_M (SOIC, 16-Leads, Body 9.9x3.9mm, Pitch 1.27mm, IPC Low Density)
pins: 1 1B (in), 2 1A (in), 3 1Y (hiz), 4 G (in), 5 2Y (hiz), 6 2A (in), 7 2B (in), 8 GND (power), 9 3B (in), 10 3A (in), 11 3Y (hiz), 12 ~{G} (in), 13 4Y (hiz), 14 4A (in), 15 4B (in), 16 VCC (power)

## AM26LS32ACN
designator U?
Quadruple Differential Line Receiver, 0 TX / 4 RX, 0 to 70 degC, 16-Pin PDIP (N), Green (RoHS & no Sb/Br); PartNumber: AM26LS32ACN; Manufacturer: Texas Instruments; SubFamily: RS-422; Receivers Per Package: 4; ICC(Max)(mA): 70; Rating: Catalog; DatasheetVersion: SLLS115E; PackageVersion: revE, Dec-2002; PackageReference: N16; PackageDescription: 16-Pin Plastic Dual-In-Line Package, Row Spacing 7.62 mm, Pitch 2.54 mm; Mounting Technology: Through-hole; Eco-Plan: Green (RoHS & no Sb/Br); # of TX/RX: 0 TX / 4 RX; Code_JEDEC: MS-001*; ComponentLink1Description: Datasheet; ComponentLink1URL: http://www.ti.com/general/docs/lit/getliterature.tsp?genericPartNumber=AM26LS32AC&fileType=pdf; ComponentLink2Description: Package Specification; ComponentLink2URL: http://www.ti.com/lit/ml/mpdi002c/mpdi002c.pdf
footprint N16 (DIP, 16-Leads, Row Spacing 7.62mm, Pitch 2.54mm, Body 19.3x6.4mm)
pins: 1 1B (in), 2 1A (in), 3 1Y (hiz), 4 G (in), 5 2Y (hiz), 6 2A (in), 7 2B (in), 8 GND (power), 9 3B (in), 10 3A (in), 11 3Y (hiz), 12 ~{G} (in), 13 4Y (hiz), 14 4A (in), 15 4B (in), 16 VCC (power)

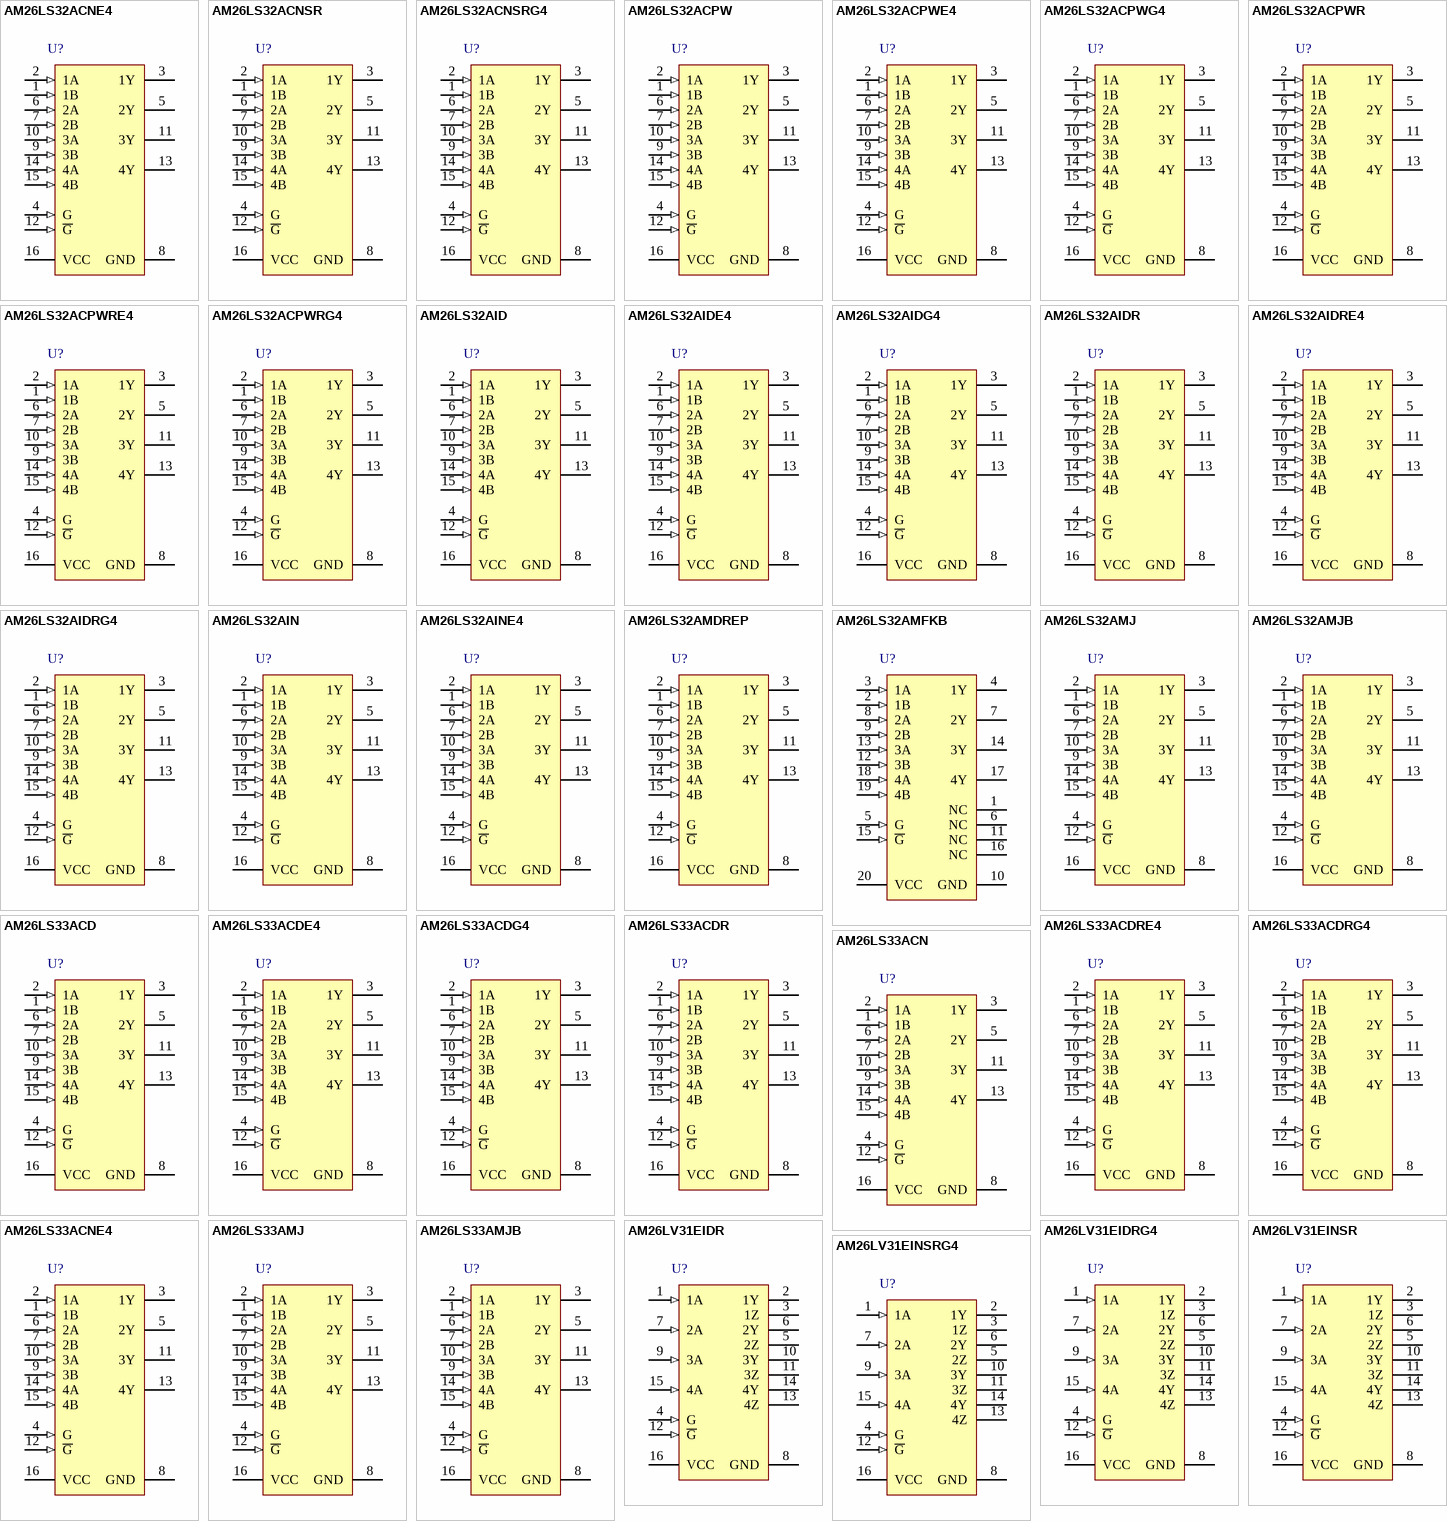
[diagram p3: symbols AM26LS32ACNE4 to AM26LV31EINSRG4]

## AM26LS32ACNE4
designator U?
Quadruple Differential Line Receiver, 0 TX / 4 RX, 0 to 70 degC, 16-Pin PDIP (N), Green (RoHS & no Sb/Br); PartNumber: AM26LS32ACNE4; Manufacturer: Texas Instruments; Eco-Plan: Pb-Free (RoHS); SubFamily: RS-422; Receivers Per Package: 4; ICC(Max)(mA): 70; Rating: Catalog; DatasheetVersion: SLLS115E; PackageVersion: revE, Dec-2002; PackageReference: N16; PackageDescription: 16-Pin Plastic Dual-In-Line Package, Row Spacing 7.62 mm, Pitch 2.54 mm; Mounting Technology: Through-hole; # of TX/RX: 0 TX / 4 RX; Code_JEDEC: MS-001*; ComponentLink1Description: Datasheet; ComponentLink1URL: http://www.ti.com/general/docs/lit/getliterature.tsp?genericPartNumber=AM26LS32AC&fileType=pdf; ComponentLink2Description: Package Specification; ComponentLink2URL: http://www.ti.com/lit/ml/mpdi002c/mpdi002c.pdf
footprint N16 (DIP, 16-Leads, Row Spacing 7.62mm, Pitch 2.54mm, Body 19.3x6.4mm)
pins: 1 1B (in), 2 1A (in), 3 1Y (hiz), 4 G (in), 5 2Y (hiz), 6 2A (in), 7 2B (in), 8 GND (power), 9 3B (in), 10 3A (in), 11 3Y (hiz), 12 ~{G} (in), 13 4Y (hiz), 14 4A (in), 15 4B (in), 16 VCC (power)

## AM26LS32ACNSR
designator U?
Quadruple Differential Line Receiver, 0 TX / 4 RX, 0 to 70 degC, 16-Pin SO (NS), Green (RoHS & no Sb/Br); PartNumber: AM26LS32ACNSR; Manufacturer: Texas Instruments; SubFamily: RS-422; Receivers Per Package: 4; ICC(Max)(mA): 70; Rating: Catalog; DatasheetVersion: SLLS115E; PackageVersion: revC, Mar-2003; PackageReference: NS16; PackageDescription: 16-Pin Plastic Small Outline Package, 10.2 x 5.3 mm, Pitch 1.27 mm Pitch; Mounting Technology: Surface Mount; Eco-Plan: Green (RoHS & no Sb/Br); # of TX/RX: 0 TX / 4 RX; ComponentLink1Description: Datasheet; ComponentLink1URL: http://www.ti.com/general/docs/lit/getliterature.tsp?genericPartNumber=AM26LS32AC&fileType=pdf; ComponentLink2Description: Package Specification; ComponentLink2URL: http://www.ti.com/litv/pdf/msop002a
footprint NS16_N (SOP, 16-Leads, Body 10.2x5.3mm, Pitch 1.27mm, IPC Medium Density)
footprint NS16_L (SOP, 16-Leads, Body 10.2x5.3mm, Pitch 1.27mm, IPC High Density)
footprint NS16_M (SOP, 16-Leads, Body 10.2x5.3mm, Pitch 1.27mm, IPC Low Density)
pins: 1 1B (in), 2 1A (in), 3 1Y (hiz), 4 G (in), 5 2Y (hiz), 6 2A (in), 7 2B (in), 8 GND (power), 9 3B (in), 10 3A (in), 11 3Y (hiz), 12 ~{G} (in), 13 4Y (hiz), 14 4A (in), 15 4B (in), 16 VCC (power)

## AM26LS32ACNSRG4
designator U?
Quadruple Differential Line Receiver, 0 TX / 4 RX, 0 to 70 degC, 16-Pin SO (NS), Green (RoHS & no Sb/Br); PartNumber: AM26LS32ACNSRG4; Manufacturer: Texas Instruments; SubFamily: RS-422; Receivers Per Package: 4; ICC(Max)(mA): 70; Rating: Catalog; DatasheetVersion: SLLS115E; PackageVersion: revC, Mar-2003; PackageReference: NS16; PackageDescription: 16-Pin Plastic Small Outline Package, 10.2 x 5.3 mm, Pitch 1.27 mm Pitch; Mounting Technology: Surface Mount; Eco-Plan: Green (RoHS & no Sb/Br); # of TX/RX: 0 TX / 4 RX; ComponentLink1Description: Datasheet; ComponentLink1URL: http://www.ti.com/general/docs/lit/getliterature.tsp?genericPartNumber=AM26LS32AC&fileType=pdf; ComponentLink2Description: Package Specification; ComponentLink2URL: http://www.ti.com/litv/pdf/msop002a
footprint NS16_N (SOP, 16-Leads, Body 10.2x5.3mm, Pitch 1.27mm, IPC Medium Density)
footprint NS16_L (SOP, 16-Leads, Body 10.2x5.3mm, Pitch 1.27mm, IPC High Density)
footprint NS16_M (SOP, 16-Leads, Body 10.2x5.3mm, Pitch 1.27mm, IPC Low Density)
pins: 1 1B (in), 2 1A (in), 3 1Y (hiz), 4 G (in), 5 2Y (hiz), 6 2A (in), 7 2B (in), 8 GND (power), 9 3B (in), 10 3A (in), 11 3Y (hiz), 12 ~{G} (in), 13 4Y (hiz), 14 4A (in), 15 4B (in), 16 VCC (power)

## AM26LS32ACPW
designator U?
Quadruple Differential Line Receiver, 0 TX / 4 RX, 0 to 70 degC, 16-PinTSSOP (PW), Green (RoHS & no Sb/Br); PartNumber: AM26LS32ACPW; Manufacturer: Texas Instruments; SubFamily: RS-422; Receivers Per Package: 4; ICC(Max)(mA): 70; Rating: Catalog; DatasheetVersion: SLLS115E; PackageVersion: revG, Feb-2011; PackageReference: PW16; PackageDescription: 16-Pin Plastic Thin Small Outline Package 5 x 4.4 mm Body ,0.65 mm Pitch; Mounting Technology: Surface Mount; Eco-Plan: Green (RoHS & no Sb/Br); # of TX/RX: 0 TX / 4 RX; Code_JEDEC: MO-153; ComponentLink1Description: Datasheet; ComponentLink1URL: http://www.ti.com/general/docs/lit/getliterature.tsp?genericPartNumber=AM26LS32AC&fileType=pdf; ComponentLink2Description: Package Specification; ComponentLink2URL: http://www.ti.com/lit/ml/mpds361/mpds361.pdf
footprint PW16_N (TSOP, 16-Leads, Body 5x4.4mm, Pitch 0.65mm, IPC Medium Density)
footprint PW16_L (TSOP, 16-Leads, Body 5x4.4mm, Pitch 0.65mm, IPC High Density)
footprint PW16_M (TSOP, 16-Leads, Body 5x4.4mm, Pitch 0.65mm, IPC Low Density)
pins: 1 1B (in), 2 1A (in), 3 1Y (hiz), 4 G (in), 5 2Y (hiz), 6 2A (in), 7 2B (in), 8 GND (power), 9 3B (in), 10 3A (in), 11 3Y (hiz), 12 ~{G} (in), 13 4Y (hiz), 14 4A (in), 15 4B (in), 16 VCC (power)

## AM26LS32ACPWE4
designator U?
Quadruple Differential Line Receiver, 0 TX / 4 RX, 0 to 70 degC, 16-PinTSSOP (PW), Green (RoHS & no Sb/Br); PartNumber: AM26LS32ACPWE4; Manufacturer: Texas Instruments; SubFamily: RS-422; Receivers Per Package: 4; ICC(Max)(mA): 70; Rating: Catalog; DatasheetVersion: SLLS115E; PackageVersion: revG, Feb-2011; PackageReference: PW16; PackageDescription: 16-Pin Plastic Thin Small Outline Package 5 x 4.4 mm Body ,0.65 mm Pitch; Mounting Technology: Surface Mount; Eco-Plan: Green (RoHS & no Sb/Br); # of TX/RX: 0 TX / 4 RX; Code_JEDEC: MO-153; ComponentLink1Description: Datasheet; ComponentLink1URL: http://www.ti.com/general/docs/lit/getliterature.tsp?genericPartNumber=AM26LS32AC&fileType=pdf; ComponentLink2Description: Package Specification; ComponentLink2URL: http://www.ti.com/lit/ml/mpds361/mpds361.pdf
footprint PW16_N (TSOP, 16-Leads, Body 5x4.4mm, Pitch 0.65mm, IPC Medium Density)
footprint PW16_L (TSOP, 16-Leads, Body 5x4.4mm, Pitch 0.65mm, IPC High Density)
footprint PW16_M (TSOP, 16-Leads, Body 5x4.4mm, Pitch 0.65mm, IPC Low Density)
pins: 1 1B (in), 2 1A (in), 3 1Y (hiz), 4 G (in), 5 2Y (hiz), 6 2A (in), 7 2B (in), 8 GND (power), 9 3B (in), 10 3A (in), 11 3Y (hiz), 12 ~{G} (in), 13 4Y (hiz), 14 4A (in), 15 4B (in), 16 VCC (power)

## AM26LS32ACPWG4
designator U?
Quadruple Differential Line Receiver, 0 TX / 4 RX, 5V, 0 to 70 degC, 16-Pin TSSOP (PW), Green (RoHS & no Sb/Br); PartNumber: AM26LS32ACPWG4; Manufacturer: Texas Instruments; SubFamily: RS-422; Receivers Per Package: 4; ICC(Max)(mA): 70; Supply Voltage(s)(V): 5; ESD(kV): 2; Rating: Catalog; DatasheetVersion: SLLS115E; PackageVersion: revG, Feb-2011; PackageReference: PW16; PackageDescription: 16-Pin Plastic Thin Small Outline Package 5 x 4.4 mm Body ,0.65 mm Pitch; Mounting Technology: Surface Mount; Eco-Plan: Green (RoHS & no Sb/Br); # of TX/RX: 0 TX / 4 RX; Footprint: AM26LS32; Code_JEDEC: MO-153; ComponentLink1Description: Datasheet; ComponentLink1URL: http://www.ti.com/general/docs/lit/getliterature.tsp?genericPartNumber=AM26LS32A&fileType=pdf; ComponentLink2Description: Package Specification; ComponentLink2URL: http://www.ti.com/lit/ml/mpds361/mpds361.pdf
footprint PW16_N (TSOP, 16-Leads, Body 5x4.4mm, Pitch 0.65mm, IPC Medium Density)
footprint PW16_L (TSOP, 16-Leads, Body 5x4.4mm, Pitch 0.65mm, IPC High Density)
footprint PW16_M (TSOP, 16-Leads, Body 5x4.4mm, Pitch 0.65mm, IPC Low Density)
pins: 1 1B (in), 2 1A (in), 3 1Y (hiz), 4 G (in), 5 2Y (hiz), 6 2A (in), 7 2B (in), 8 GND (power), 9 3B (in), 10 3A (in), 11 3Y (hiz), 12 ~{G} (in), 13 4Y (hiz), 14 4A (in), 15 4B (in), 16 VCC (power)

## AM26LS32ACPWR
designator U?
Quadruple Differential Line Receiver, 0 TX / 4 RX, 0 to 70 degC, 16-PinTSSOP (PW), Green (RoHS & no Sb/Br); PartNumber: AM26LS32ACPWR; Manufacturer: Texas Instruments; SubFamily: RS-422; Receivers Per Package: 4; ICC(Max)(mA): 70; Rating: Catalog; DatasheetVersion: SLLS115E; PackageVersion: revG, Feb-2011; PackageReference: PW16; PackageDescription: 16-Pin Plastic Thin Small Outline Package 5 x 4.4 mm Body ,0.65 mm Pitch; Mounting Technology: Surface Mount; Eco-Plan: Green (RoHS & no Sb/Br); # of TX/RX: 0 TX / 4 RX; Code_JEDEC: MO-153; ComponentLink1Description: Datasheet; ComponentLink1URL: http://www.ti.com/general/docs/lit/getliterature.tsp?genericPartNumber=AM26LS32AC&fileType=pdf; ComponentLink2Description: Package Specification; ComponentLink2URL: http://www.ti.com/lit/ml/mpds361/mpds361.pdf
footprint PW16_N (TSOP, 16-Leads, Body 5x4.4mm, Pitch 0.65mm, IPC Medium Density)
footprint PW16_L (TSOP, 16-Leads, Body 5x4.4mm, Pitch 0.65mm, IPC High Density)
footprint PW16_M (TSOP, 16-Leads, Body 5x4.4mm, Pitch 0.65mm, IPC Low Density)
pins: 1 1B (in), 2 1A (in), 3 1Y (hiz), 4 G (in), 5 2Y (hiz), 6 2A (in), 7 2B (in), 8 GND (power), 9 3B (in), 10 3A (in), 11 3Y (hiz), 12 ~{G} (in), 13 4Y (hiz), 14 4A (in), 15 4B (in), 16 VCC (power)

## AM26LS32ACPWRE4
designator U?
Quadruple Differential Line Receiver, 0 TX / 4 RX, 0 to 70 degC, 16-PinTSSOP (PW), Green (RoHS & no Sb/Br); PartNumber: AM26LS32ACPWRE4; Manufacturer: Texas Instruments; SubFamily: RS-422; Receivers Per Package: 4; ICC(Max)(mA): 70; Rating: Catalog; DatasheetVersion: SLLS115E; PackageVersion: revG, Feb-2011; PackageReference: PW16; PackageDescription: 16-Pin Plastic Thin Small Outline Package 5 x 4.4 mm Body ,0.65 mm Pitch; Mounting Technology: Surface Mount; Eco-Plan: Green (RoHS & no Sb/Br); # of TX/RX: 0 TX / 4 RX; Code_JEDEC: MO-153; ComponentLink1Description: Datasheet; ComponentLink1URL: http://www.ti.com/general/docs/lit/getliterature.tsp?genericPartNumber=AM26LS32AC&fileType=pdf; ComponentLink2Description: Package Specification; ComponentLink2URL: http://www.ti.com/lit/ml/mpds361/mpds361.pdf
footprint PW16_N (TSOP, 16-Leads, Body 5x4.4mm, Pitch 0.65mm, IPC Medium Density)
footprint PW16_L (TSOP, 16-Leads, Body 5x4.4mm, Pitch 0.65mm, IPC High Density)
footprint PW16_M (TSOP, 16-Leads, Body 5x4.4mm, Pitch 0.65mm, IPC Low Density)
pins: 1 1B (in), 2 1A (in), 3 1Y (hiz), 4 G (in), 5 2Y (hiz), 6 2A (in), 7 2B (in), 8 GND (power), 9 3B (in), 10 3A (in), 11 3Y (hiz), 12 ~{G} (in), 13 4Y (hiz), 14 4A (in), 15 4B (in), 16 VCC (power)

## AM26LS32ACPWRG4
designator U?
Quadruple Differential Line Receiver, 0 TX / 4 RX, 0 to 70 degC, 16-PinTSSOP (PW), Green (RoHS & no Sb/Br); PartNumber: AM26LS32ACPWRG4; Manufacturer: Texas Instruments; SubFamily: RS-422; Receivers Per Package: 4; ICC(Max)(mA): 70; Rating: Catalog; DatasheetVersion: SLLS115E; PackageVersion: revG, Feb-2011; PackageReference: PW16; PackageDescription: 16-Pin Plastic Thin Small Outline Package 5 x 4.4 mm Body ,0.65 mm Pitch; Mounting Technology: Surface Mount; Eco-Plan: Green (RoHS & no Sb/Br); # of TX/RX: 0 TX / 4 RX; Code_JEDEC: MO-153; ComponentLink1Description: Datasheet; ComponentLink1URL: http://www.ti.com/general/docs/lit/getliterature.tsp?genericPartNumber=AM26LS32AC&fileType=pdf; ComponentLink2Description: Package Specification; ComponentLink2URL: http://www.ti.com/lit/ml/mpds361/mpds361.pdf
footprint PW16_N (TSOP, 16-Leads, Body 5x4.4mm, Pitch 0.65mm, IPC Medium Density)
footprint PW16_L (TSOP, 16-Leads, Body 5x4.4mm, Pitch 0.65mm, IPC High Density)
footprint PW16_M (TSOP, 16-Leads, Body 5x4.4mm, Pitch 0.65mm, IPC Low Density)
pins: 1 1B (in), 2 1A (in), 3 1Y (hiz), 4 G (in), 5 2Y (hiz), 6 2A (in), 7 2B (in), 8 GND (power), 9 3B (in), 10 3A (in), 11 3Y (hiz), 12 ~{G} (in), 13 4Y (hiz), 14 4A (in), 15 4B (in), 16 VCC (power)